# EAGLE library part ADC081C021 (library OpenMotics)
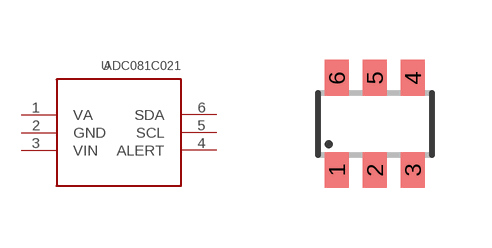
[diagram p12: symbol with the pads of TSOT6; footprint TSOT6]

Designator prefix U

## ADC081C021  [TSOT6]
1  VA
2  GND
3  VIN
4  ALERT
5  SCL
6  SDA

## Footprint TSOT6 (pad centres in mm)
smd 0.6 x 0.9: 1 -0.95,-1.15; 2 0,-1.15; 3 0.95,-1.15; 4 0.95,1.15; 5 0,1.15; 6 -0.95,1.15